# Altium schematic symbol library Watertron_BFC_10u_HV.Schlib: 1 symbol
Pins are listed as number, name and electrical type; pins without a type are passive.

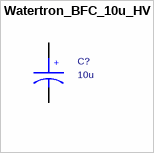
[diagram p0: symbol Watertron_BFC_10u_HV]

## Watertron_BFC_10u_HV
designator C?, comment 10u
pins: 1, 2
text: +